# EAGLE library part NRPN07 (library con-sullins-nrpn)
HEADER
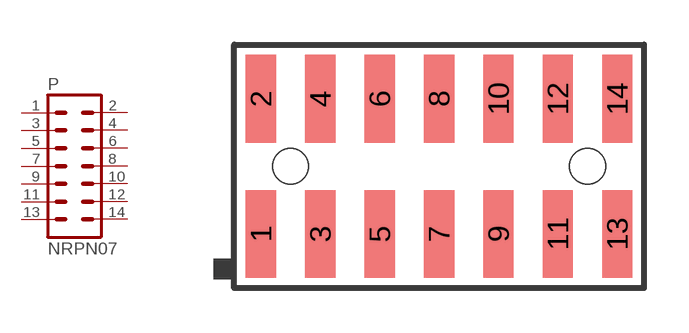
[diagram p4: symbol with the pads of NRPN07; footprint NRPN07]

Designator prefix P

## NRPN07  [NRPN07]
1  1  pas
2  2  pas
3  3  pas
4  4  pas
5  5  pas
6  6  pas
7  7  pas
8  8  pas
9  9  pas
10  10  pas
11  11  pas
12  12  pas
13  13  pas
14  14  pas

## Footprint NRPN07 (pad centres in mm)
HEADER
smd 1.02 x 2.95: 1 -6,-2.275; 2 -6,2.275; 3 -4,-2.275; 4 -4,2.275; 5 -2,-2.275; 6 -2,2.275; 7 0,-2.275; 8 0,2.275; 9 2,-2.275; 10 2,2.275; 11 4,-2.275; 12 4,2.275; 13 6,-2.275; 14 6,2.275
hole 1.2 at -5,0
hole 1.2 at 5,0